# Altium schematic symbol library SCH - POWER - LINEAR VREG - TI TPS7B8733-Q1KVU.SchLib: 1 symbol
Pins are listed as number, name and electrical type; pins without a type are passive.

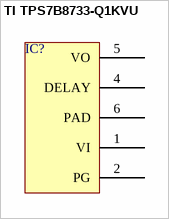
[diagram p0: symbol TI TPS7B8733-Q1KVU]

## TI TPS7B8733-Q1KVU
designator IC?  (value not drawn)
pins: 1 VI, 2 PG, 4 DELAY, 5 VO, 6 PAD